# EAGLE library part RN2903 (library RN2903)
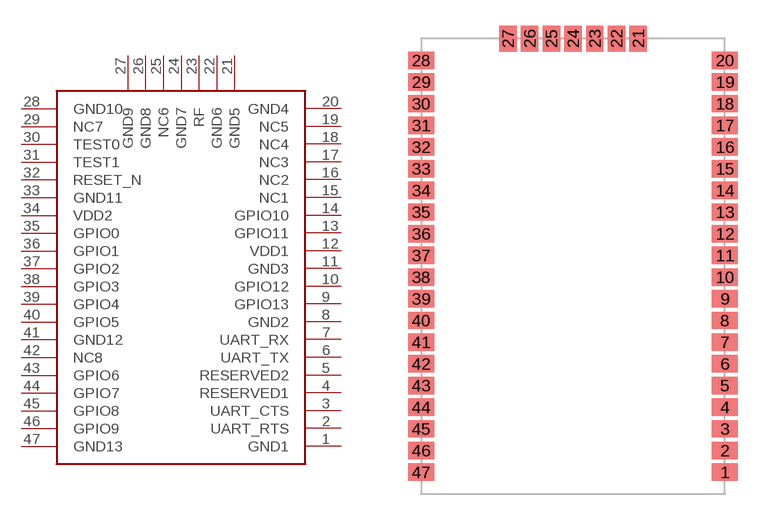
[diagram p0: symbol with the pads of RN2903; footprint RN2903]

Designator prefix -

## RN2903  [RN2903]
1  GND1
2  UART_RTS
3  UART_CTS
4  RESERVED1
5  RESERVED2
6  UART_TX
7  UART_RX
8  GND2
9  GPIO13
10  GPIO12
11  GND3
12  VDD1
13  GPIO11
14  GPIO10
15  NC1
16  NC2
17  NC3
18  NC4
19  NC5
20  GND4
21  GND5
22  GND6
23  RF
24  GND7
25  NC6
26  GND8
27  GND9
28  GND10
29  NC7
30  TEST0
31  TEST1
32  RESET_N
33  GND11
34  VDD2
35  GPIO0
36  GPIO1
37  GPIO2
38  GPIO3
39  GPIO4
40  GPIO5
41  GND12
42  NC8
43  GPIO6
44  GPIO7
45  GPIO8
46  GPIO9
47  GND13

## Footprint RN2903 (pad centres in mm)
Layout for RN2903
smd 1.524 x 1.016: 1 8.89,-11.43; 2 8.89,-10.16; 3 8.89,-8.89; 4 8.89,-7.62; 5 8.89,-6.35; 6 8.89,-5.08; 7 8.89,-3.81; 8 8.89,-2.54; 9 8.89,-1.27; 10 8.89,0; 11 8.89,1.27; 12 8.89,2.54; 13 8.89,3.81; 14 8.89,5.08; 15 8.89,6.35; 16 8.89,7.62; 17 8.89,8.89; 18 8.89,10.16; 19 8.89,11.43; 20 8.89,12.7; 28 -8.89,12.7; 29 -8.89,11.43; 30 -8.89,10.16; 31 -8.89,8.89; 32 -8.89,7.62; 33 -8.89,6.35; 34 -8.89,5.08; 35 -8.89,3.81; 36 -8.89,2.54; 37 -8.89,1.27; 38 -8.89,0; 39 -8.89,-1.27; 40 -8.89,-2.54; 41 -8.89,-3.81; 42 -8.89,-5.08; 43 -8.89,-6.35; 44 -8.89,-7.62; 45 -8.89,-8.89; 46 -8.89,-10.16; 47 -8.89,-11.43
smd 1.016 x 1.524: 21 3.81,13.97; 22 2.54,13.97; 23 1.27,13.97; 24 0,13.97; 25 -1.27,13.97; 26 -2.54,13.97; 27 -3.81,13.97